# EAGLE library part SP3002-04 (library yantronix)
Very low capacitance ESD protection
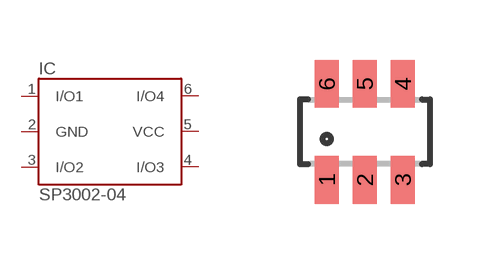
[diagram p15: symbol with the pads of SOT23-6; footprint SOT23-6]

Designator prefix IC

## SP3002-04HTG  [SOT23-6]
1  I/O1
2  GND  pwr
3  I/O2
4  I/O3
5  VCC  pwr
6  I/O4

## Footprint SOT23-6 (pad centres in mm)
smd 0.6 x 1.2: 1 -0.95,-1.2; 2 0,-1.2; 3 0.95,-1.2; 4 0.95,1.2; 5 0,1.2; 6 -0.95,1.2